# Altium footprint library IND_SRP4020TA-1R5M.PcbLib: 1 footprints
Each footprint in its own frame and in the unit in brackets; x right, y up, seen from the top. Pads: shape width x height; smd on the part's side, far side on the other; paste and mask are expansions set on the pad; w line width, h text height; cw(c..) or ccw(c..) is an arc to the next point about the centre after c.
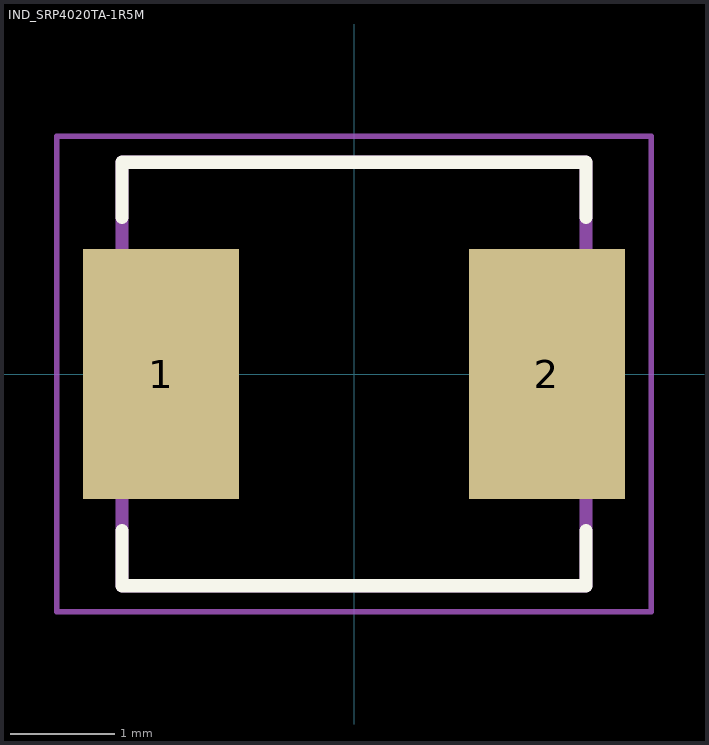
[diagram p0: the footprint, top view; thin cyan lines are the x and y axes]

## IND_SRP4020TA-1R5M [mm]
pads (2):
  rect 1.5x2.4 smd: 1(-1.85,0) 2(1.85,0)
Top Overlay:
  lines w0.127: -2.225,-1.5 -2.225,-2.03 2.225,-2.03 2.225,-1.5 ; -2.225,1.5 -2.225,2.03 2.225,2.03 2.225,1.5
Mechanical 13:
  lines w0.127: -2.225,-2.03 2.225,-2.03 2.225,2.03 -2.225,2.03 -2.225,-2.03
Mechanical 15:
  lines w0.05: -2.85,-2.28 2.85,-2.28 2.85,2.28 -2.85,2.28 -2.85,-2.28